# Altium footprint library CubeNode_v3 and v4_FootPrint.PcbLib: 2 footprints
Each footprint in its own frame and in the unit in brackets; x right, y up, seen from the top. Pads: shape width x height; smd on the part's side, far side on the other; paste and mask are expansions set on the pad; w line width, h text height; cw(c..) or ccw(c..) is an arc to the next point about the centre after c.
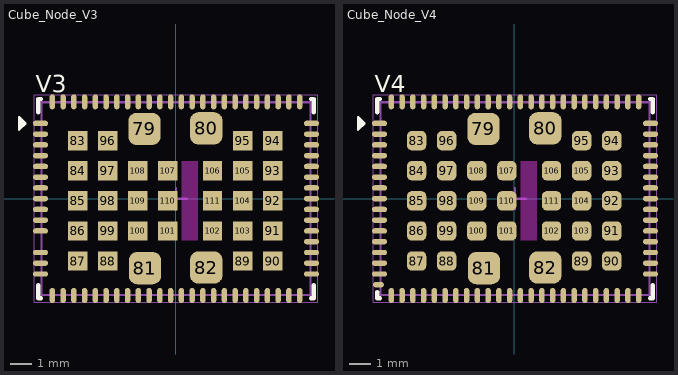
[diagram p0: the footprints below, top view; thin cyan lines are the x and y axes]

## Cube_Node_V3 [mm] "-20% on edge pads, -30% on 0.9mmx0.9mm Pads, ~ %40 on 1.5mmx1.5mm pads"
pads (110):
  oval 0.7x0.25 smd paste-0.02: 1(-6.3,3.5) 2(-6.3,3) 3(-6.3,2.5) 4(-6.3,2) 5(-6.3,1.5) 6(-6.3,1) 7(-6.3,0.5) 8(-6.3,0) 9(-6.3,-0.5) 10(-6.3,-1) 11(-6.3,-1.5) 13(-6.3,-2.5) 14(-6.3,-3) 15(-6.3,-3.5) 40(6.3,-3.5) 41(6.3,-3) 42(6.3,-2.5) 43(6.3,-2) 44(6.3,-1.5) 45(6.3,-1) 46(6.3,-0.5) 47(6.3,0) 48(6.3,0.5) 49(6.3,1) 50(6.3,1.5) 51(6.3,2) 52(6.3,2.5) 53(6.3,3) 54(6.3,3.5)
  oval 0.25x0.7 smd paste-0.02: 16(-5.75,-4.5) 17(-5.25,-4.5) 18(-4.75,-4.5) 19(-4.25,-4.5) 20(-3.75,-4.5) 21(-3.25,-4.5) 22(-2.75,-4.5) 23(-2.25,-4.5) 24(-1.75,-4.5) 25(-1.25,-4.5) 26(-0.75,-4.5) 27(-0.25,-4.5) 28(0.25,-4.5) 29(0.75,-4.5) 30(1.25,-4.5) 31(1.75,-4.5) 32(2.25,-4.5) 33(2.75,-4.5) 34(3.25,-4.5) 35(3.75,-4.5) 36(4.25,-4.5) 37(4.75,-4.5) 38(5.25,-4.5) 39(5.75,-4.5) 55(5.75,4.5) 56(5.25,4.5) 57(4.75,4.5) 58(4.25,4.5) 59(3.75,4.5) 60(3.25,4.5) 61(2.75,4.5) 62(2.25,4.5) 63(1.75,4.5) 64(1.25,4.5) 65(0.75,4.5) 66(0.25,4.5) 67(-0.25,4.5) 68(-0.75,4.5) 69(-1.25,4.5) 70(-1.75,4.5) 71(-2.25,4.5) 72(-2.75,4.5) 73(-3.25,4.5) 74(-3.75,4.5) 75(-4.25,4.5) 76(-4.75,4.5) 77(-5.25,4.5) 78(-5.75,4.5)
  rrect50% 1.5x1.5 smd paste-2539.97: 79(-1.468,3.245) 80(1.407,3.27) 81(-1.443,-3.23) 82(1.407,-3.205)
  rect 0.9x0.9 smd paste-0.074: 83(-4.576,2.7) 84(-4.576,1.3) 85(-4.576,-0.1) 86(-4.576,-1.5) 87(-4.576,-2.9) 88(-3.176,-2.9) 89(3.1,-2.9) 90(4.5,-2.9) 91(4.5,-1.5) 92(4.5,-0.1) 93(4.5,1.3) 94(4.5,2.7) 95(3.1,2.7) 96(-3.176,2.7) 97(-3.176,1.3) 98(-3.176,-0.1) 99(-3.176,-1.5) 100(-1.776,-1.5) 101(-0.376,-1.5) 102(1.7,-1.5) 103(3.1,-1.5) 104(3.1,-0.1) 105(3.1,1.3) 106(1.7,1.3) 107(-0.376,1.3) 108(-1.776,1.3) 109(-1.776,-0.1) 110(-0.376,-0.1) 111(1.7,-0.1)
Top Layer keep-out:
  rectangle: 0.25,-1.95 1.032,1.75
Top Overlay:
  region: -7,3.5 -7.3,3.8 -7.3,3.2
  lines w0.102: -7.3,3.2 -7,3.5 -7.3,3.8 -7.3,3.2
  lines w0.2: -6.41,-4.025 -6.41,-4.635 -6.275,-4.635 ; -6.41,4.025 -6.41,4.635 -6.275,4.635 ; 6.275,-4.635 6.41,-4.635 6.41,-4.025 ; 6.275,4.635 6.41,4.635 6.41,4.025
  text "V3" at -6.513,4.95 h0.8
Top Paste:
  drawing of 16 lines, arcs and shapes, not listed
Top 3D Body:
  lines w0.1: -6.26,-4.485 -6.26,4.485 6.26,4.485 6.26,-4.485 -6.26,-4.485
Top Component Center:
  lines w0.1: -0.5,0 0.5,0 -0.5,0 ; 0,-0.5 0,0.5 0,-0.5
Top Assembly:
  text "Exposed copper" at 0.8,-1.55 h0.2
Top Courtyard:
  lines w0.05: -6.6,-4.825 6.6,-4.825 6.6,4.825 -6.6,4.825 -6.6,-4.825

## Cube_Node_V4 [mm] "-20% on edge pads, -30% on 0.9mmx0.9mm Pads, ~ %40 on 1.5mmx1.5mm pads"
pads (112):
  oval 0.7x0.25 smd paste-0.02: 1(-6.275,3.5) 2(-6.275,3) 3(-6.275,2.5) 4(-6.275,2) 5(-6.275,1.5) 6(-6.275,1) 7(-6.275,0.5) 8(-6.275,0) 9(-6.275,-0.5) 10(-6.275,-1) 11(-6.275,-1.5) 12(-6.275,-2) 13(-6.275,-2.5) 14(-6.275,-3) 15(-6.275,-3.5) 40(6.325,-3.5) 41(6.325,-3) 42(6.325,-2.5) 43(6.325,-2) 44(6.325,-1.5) 45(6.325,-1) 46(6.325,-0.5) 47(6.325,0) 48(6.325,0.5) 49(6.325,1) 50(6.325,1.5) 51(6.325,2) 52(6.325,2.5) 53(6.325,3) 54(6.325,3.5)
  oval 0.25x0.7 smd paste-0.02: 16(-5.725,-4.5) 17(-5.225,-4.5) 18(-4.725,-4.5) 19(-4.225,-4.5) 20(-3.725,-4.5) 21(-3.225,-4.5) 22(-2.725,-4.5) 23(-2.225,-4.5) 24(-1.725,-4.5) 25(-1.225,-4.5) 26(-0.725,-4.5) 27(-0.225,-4.5) 28(0.275,-4.5) 29(0.775,-4.5) 30(1.275,-4.5) 31(1.775,-4.5) 32(2.275,-4.5) 33(2.775,-4.5) 34(3.275,-4.5) 35(3.775,-4.5) 36(4.275,-4.5) 37(4.775,-4.5) 38(5.275,-4.5) 39(5.775,-4.5) 55(5.775,4.5) 56(5.275,4.5) 57(4.775,4.5) 58(4.275,4.5) 59(3.775,4.5) 60(3.275,4.5) 61(2.775,4.5) 62(2.275,4.5) 63(1.775,4.5) 64(1.275,4.5) 65(0.775,4.5) 66(0.275,4.5) 67(-0.225,4.5) 68(-0.725,4.5) 69(-1.225,4.5) 70(-1.725,4.5) 71(-2.225,4.5) 72(-2.725,4.5) 73(-3.225,4.5) 74(-3.725,4.5) 75(-4.225,4.5) 76(-4.725,4.5) 77(-5.225,4.5) 78(-5.725,4.5)
  rrect50% 1.5x1.5 smd paste-2539.97: 79(-1.443,3.245) 80(1.432,3.27) 81(-1.418,-3.23) 82(1.432,-3.205)
  rrect50% 0.9x0.9 smd paste-0.074: 83(-4.551,2.7) 84(-4.551,1.3) 85(-4.551,-0.1) 86(-4.551,-1.5) 87(-4.551,-2.9) 88(-3.151,-2.9) 89(3.125,-2.9) 90(4.525,-2.9) 91(4.525,-1.5) 92(4.525,-0.1) 93(4.525,1.3) 94(4.525,2.7) 95(3.125,2.7) 96(-3.151,2.7) 97(-3.151,1.3) 98(-3.151,-0.1) 99(-3.151,-1.5) 100(-1.751,-1.5) 101(-0.351,-1.5) 102(1.725,-1.5) 103(3.125,-1.5) 104(3.125,-0.1) 105(3.125,1.3) 106(1.725,1.3) 107(-0.351,1.3) 108(-1.751,1.3) 109(-1.751,-0.1) 110(-0.351,-0.1) 111(1.725,-0.1)
  oval 0.5x0.25 smd paste-0.018: LED(-6.325,-4)
Top Layer keep-out:
  rectangle: 0.275,-1.95 1.057,1.75
Top Overlay:
  region: -6.975,3.5 -7.275,3.8 -7.275,3.2
  lines w0.102: -7.275,3.2 -6.975,3.5 -7.275,3.8 -7.275,3.2
  lines w0.2: -6.385,-4.335 -6.385,-4.635 -6.25,-4.635 ; -6.385,4.025 -6.385,4.635 -6.25,4.635 ; 6.3,-4.635 6.435,-4.635 6.435,-4.025 ; 6.3,4.635 6.435,4.635 6.435,4.025
  text "V4" at -6.488,4.95 h0.8
Top Paste:
  drawing of 16 lines, arcs and shapes, not listed
Top 3D Body:
  lines w0.1: -6.235,-4.485 -6.235,4.485 6.285,4.485 6.285,-4.485 -6.235,-4.485
Top Component Center:
  lines w0.1: -0.475,0 0.525,0 -0.475,0 ; 0.025,-0.5 0.025,0.5 0.025,-0.5
Top Assembly:
  text "Exposed copper" at 0.8,-1.55 h0.2
Top Courtyard:
  lines w0.05: -6.575,-4.825 6.625,-4.825 6.625,4.825 -6.575,4.825 -6.575,-4.825